# Altium footprint library RPI_EIT_Pcblib.PcbLib: 25 footprints (part 2 of 2)
Each footprint in its own frame and in the unit in brackets; x right, y up, seen from the top. Pads: shape width x height; smd on the part's side, far side on the other; paste and mask are expansions set on the pad; w line width, h text height; cw(c..) or ccw(c..) is an arc to the next point about the centre after c.
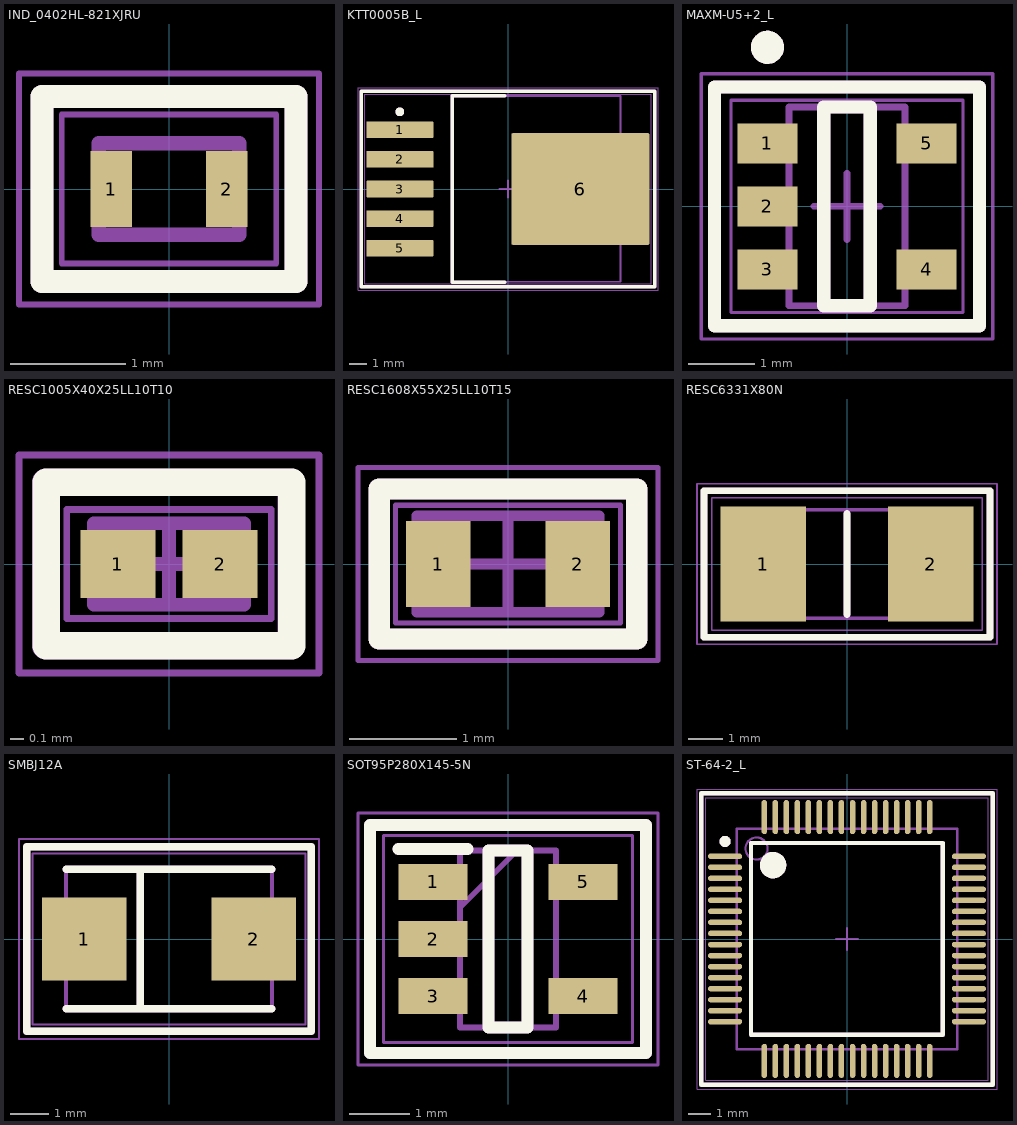
[diagram p1: the footprints below, top view; thin cyan lines are the x and y axes]

## IND_0402HL-821XJRU [mm]
pads (2):
  rect 0.36x0.66 smd: 1(-0.5,0) 2(0.5,0)
Top Overlay:
  lines w0.2: -1.1,-0.8 1.1,-0.8 1.1,0.8 -1.1,0.8 -1.1,-0.8
Top Courtyard:
  lines w0.05: -1.3,-1 1.3,-1 1.3,1 -1.3,1 -1.3,-1
Top Assembly:
  lines w0.2: -1.1,-0.8 1.1,-0.8 1.1,0.8 -1.1,0.8 -1.1,-0.8
  text ".Designator" at -3.499,-0.233 h0.7
Mechanical 13:
  lines w0.127: -0.61,-0.395 -0.61,0.395 0.61,0.395 0.61,-0.395 -0.61,-0.395
Mechanical 15:
  lines w0.05: -0.93,-0.645 -0.93,0.645 0.93,0.645 0.93,-0.645 -0.93,-0.645
3D body "0402CS-56NXJLW.STEP": height 0.57, standoff 0.01, extent -0.61,-0.394 0.61,0.394

## KTT0005B_L [mm] "DPAK, 5-Leads, Body 10.65x9.65mm, Pitch 1.7mm, IPC High Density"
height 4.83
pads (6):
  rrect11% 3.85x0.95 smd: 1(-6.2,3.4) 2(-6.2,1.7) 3(-6.2,0) 4(-6.2,-1.7) 5(-6.2,-3.4)
  rrect2% 7.9x6.4 smd: 6(4.15,0)
Top Overlay:
  circle w0.25: c-6.2,4.425 r0.125
  lines w0.2: -0.2,-5.35 -3.2,-5.35 -3.2,5.35 -0.2,5.35 ; -8.4,-5.6 -8.4,5.6 8.4,5.6 8.4,-5.6 -8.4,-5.6
Mechanical 1:
  text ".Designator" at -1.905,-0.508 h1.3
Top Courtyard:
  lines w0.05: -8.6,-5.8 8.6,-5.8 8.6,5.8 -8.6,5.8 -8.6,-5.8
Top Assembly:
  circle w0.25: c-6.2,4.425 r0.125
  lines w0.2: -0.2,-5.35 -3.2,-5.35 -3.2,5.35 -0.2,5.35 ; -8.4,-5.6 -8.4,5.6 8.4,5.6 8.4,-5.6 -8.4,-5.6
  text ".Designator" at -3.499,-0.233 h0.7
Mechanical 13:
  lines w0.1: -3.2,-5.325 -3.2,5.325 6.45,5.325 6.45,-5.325 -3.2,-5.325
Mechanical 15:
  lines w0.05: -8.2,-5.425 -8.2,5.425 8.2,5.425 8.2,-5.425 -8.2,-5.425
  lines w0.1: -0.5,0 0.5,0 ; 0,-0.5 0,0.5
3D body: height 4.83, standoff 0, extent -3.2,-5.325 6.45,5.325

## MAXM-U5+2_L [mm] "SOT23, 5-Leads, Body 2.9x1.625mm, Pitch 0.95mm, IPC High Density"
height 1.45
pads (5):
  rect 0.9x0.6 smd: 1(-1.2,0.95) 2(-1.2,0) 3(-1.2,-0.95) 4(1.2,-0.95) 5(1.2,0.95)
Top Overlay:
  circle w0.25: c-1.2,2.4 r0.125
  lines w0.2: -2,-1.8 2,-1.8 2,1.8 -2,1.8 -2,-1.8 ; -0.35,-1.5 0.35,-1.5 0.35,1.5 -0.35,1.5 -0.35,-1.5
Top Courtyard:
  lines w0.05: -2.2,-2 -2.2,2 2.2,2 2.2,-2 -2.2,-2
Top Assembly:
  circle w0.25: c-1.2,2.4 r0.125
  lines w0.2: -2,-1.8 2,-1.8 2,1.8 -2,1.8 -2,-1.8 ; -0.35,-1.5 0.35,-1.5 0.35,1.5 -0.35,1.5 -0.35,-1.5
  text ".Designator" at -3.499,-0.233 h0.7
Mechanical 13:
  lines w0.1: -0.875,-1.5 -0.875,1.5 0.875,1.5 0.875,-1.5 -0.875,-1.5
Mechanical 15:
  lines w0.05: -1.75,-1.6 -1.75,1.6 1.75,1.6 1.75,-1.6 -1.75,-1.6
  lines w0.1: -0.5,0 0.5,0 ; 0,-0.5 0,0.5
3D body: height 1.45, standoff 0, extent -0.875,-1.5 0.875,1.5

## RESC1005X40X25LL10T10 [mm] "Chip Resistor, 2-Leads, Body 1.00x0.50mm, IPC High Density"
height 0.4
pads (2):
  rect 0.55x0.5 smd: 1(-0.375,0) 2(0.375,0)
Top Overlay:
  lines w0.2: -0.9,-0.6 0.9,-0.6 0.9,0.6 -0.9,0.6 -0.9,-0.6
Top Courtyard:
  lines w0.05: -1.1,-0.8 1.1,-0.8 1.1,0.8 -1.1,0.8 -1.1,-0.8
Top Assembly:
  lines w0.2: -0.903,-0.601 0.897,-0.601 0.897,0.599 -0.903,0.599 -0.903,-0.601
  text ".Designator" at -3.499,-0.233 h0.7
Mechanical 13:
  lines w0.1: -0.55,-0.3 0.55,-0.3 0.55,0.3 -0.55,0.3 -0.55,-0.3
Mechanical 15:
  lines w0.05: -0.75,-0.4 0.75,-0.4 0.75,0.4 -0.75,0.4 -0.75,-0.4
  lines w0.1: -0.3,0 0.3,0 ; 0,-0.3 0,0.3
3D body: height 0.4, standoff 0, extent 0.3,-0.3 0.55,0.3
3D body: height 0.4, standoff 0, extent -0.55,-0.3 -0.3,0.3
3D body: height 0.4, standoff 0, extent -0.3,-0.3 0.3,0.3

## RESC1608X55X25LL10T15 [mm] "Chip Resistor, 2-Leads, Body 1.60x0.80mm, IPC High Density"
height 0.55
pads (2):
  rect 0.6x0.8 smd: 1(-0.65,0) 2(0.65,0)
Top Overlay:
  lines w0.2: -1.2,-0.7 -1.2,0.7 1.2,0.7 1.2,-0.7 -1.2,-0.7
Top Courtyard:
  lines w0.05: -1.4,-0.9 -1.4,0.9 1.4,0.9 1.4,-0.9 -1.4,-0.9
Top Assembly:
  lines w0.2: -1.2,-0.7 -1.2,0.7 1.2,0.7 1.2,-0.7 -1.2,-0.7
  text ".Designator" at -3.499,-0.233 h0.7
Mechanical 13:
  lines w0.1: -0.85,-0.45 0.85,-0.45 0.85,0.45 -0.85,0.45 -0.85,-0.45
Mechanical 15:
  lines w0.05: -1.05,-0.55 1.05,-0.55 1.05,0.55 -1.05,0.55 -1.05,-0.55
  lines w0.1: -0.45,0 0.45,0 ; 0,-0.45 0,0.45
3D body: height 0.55, standoff 0, extent 0.6,-0.45 0.85,0.45
3D body: height 0.55, standoff 0, extent -0.85,-0.45 -0.6,0.45
3D body: height 0.55, standoff 0, extent -0.6,-0.45 0.6,0.45

## RESC6331X80N [mm]
pads (2):
  rect 2.45x3.3 smd: 1(-2.4,0) 2(2.4,0)
Top Overlay:
  lines w0.2: 0,-1.45 0,1.45 ; -4.1,-2.1 -4.1,2.1 4.1,2.1 4.1,-2.1 -4.1,-2.1
Top Courtyard:
  lines w0.05: -4.3,-2.3 -4.3,2.3 4.3,2.3 4.3,-2.3 -4.3,-2.3
Top Assembly:
  lines w0.2: 0,-1.45 0,1.45 ; -4.1,-2.1 -4.1,2.1 4.1,2.1 4.1,-2.1 -4.1,-2.1
  text ".Designator" at -3.499,-0.233 h0.7
Mechanical 15:
  lines w0.1: -3.15,-1.55 3.15,-1.55 3.15,1.55 -3.15,1.55 -3.15,-1.55
Bottom Assembly:
  lines w0.05: -3.875,-1.9 3.875,-1.9 3.875,1.9 -3.875,1.9 -3.875,-1.9
3D body "CRM2512AFX-10R0ELF.stp": height 0.8, standoff 0, extent -3.15,-1.55 3.15,1.55

## SMBJ12A [mm]
pads (2):
  rect 2.2x2.15 smd: 1(-2.2,0) 2(2.2,0)
Top Overlay:
  lines w0.2: -2.675,-1.812 2.675,-1.812 ; -2.675,1.812 2.675,1.812 ; -0.75,-1.812 -0.75,1.812 ; -3.7,-2.4 -3.7,2.4 3.7,2.4 3.7,-2.4 -3.7,-2.4
Top Courtyard:
  lines w0.05: -3.9,-2.6 -3.9,2.6 3.9,2.6 3.9,-2.6 -3.9,-2.6
Top Assembly:
  lines w0.2: -2.675,-1.812 2.675,-1.812 ; -2.675,1.812 2.675,1.812 ; -0.75,-1.812 -0.75,1.812 ; -3.7,-2.4 -3.7,2.4 3.7,2.4 3.7,-2.4 -3.7,-2.4
  text ".Designator" at -3.499,-0.233 h0.7
Mechanical 13:
  lines w0.1: -2.675,-1.812 2.675,-1.812 2.675,1.812 -2.675,1.812 -2.675,-1.812
Mechanical 15:
  lines w0.05: -3.55,-2.225 3.55,-2.225 3.55,2.225 -3.55,2.225 -3.55,-2.225
3D body "SMBJ6.0A.stp": height 2.33, standoff 0.01, extent -2.675,-1.86 2.675,1.86

## SOT95P280X145-5N [mm]
pads (5):
  rect 1.15x0.6 smd: 1(-1.25,0.95) 2(-1.25,0) 3(-1.25,-0.95) 4(1.25,-0.95) 5(1.25,0.95)
Top Overlay:
  lines w0.2: -1.825,1.5 -0.675,1.5 ; -2.3,-1.9 2.3,-1.9 2.3,1.9 -2.3,1.9 -2.3,-1.9 ; -0.325,-1.475 -0.325,1.475 0.325,1.475 0.325,-1.475 -0.325,-1.475
Top Courtyard:
  lines w0.05: -2.5,-2.1 2.5,-2.1 2.5,2.1 -2.5,2.1 -2.5,-2.1
Top Assembly:
  lines w0.2: -1.825,1.5 -0.675,1.5 ; -2.3,-1.9 2.3,-1.9 2.3,1.9 -2.3,1.9 -2.3,-1.9 ; -0.325,-1.475 -0.325,1.475 0.325,1.475 0.325,-1.475 -0.325,-1.475
  text ".Designator" at -3.499,-0.233 h0.7
Mechanical 15:
  lines w0.1: -0.8,0.525 0.15,1.475 ; -0.8,-1.475 -0.8,1.475 0.8,1.475 0.8,-1.475 -0.8,-1.475
Bottom Assembly:
  lines w0.05: -2.075,-1.725 -2.075,1.725 2.075,1.725 2.075,-1.725 -2.075,-1.725
3D body "ST730M33R.stp": height 1.45, standoff 0, extent -1.4,-1.475 1.4,1.475

## ST-64-2_L [mm] "Thin QFP, 64-Leads, Body 10x10mm, Pitch 0.5mm, IPC High Density"
height 1.6
pads (64):
  oval 1.55x0.25 smd: 1(-5.525,3.75) 2(-5.525,3.25) 3(-5.525,2.75) 4(-5.525,2.25) 5(-5.525,1.75) 6(-5.525,1.25) 7(-5.525,0.75) 8(-5.525,0.25) 9(-5.525,-0.25) 10(-5.525,-0.75) 11(-5.525,-1.25) 12(-5.525,-1.75) 13(-5.525,-2.25) 14(-5.525,-2.75) 15(-5.525,-3.25) 16(-5.525,-3.75) 33(5.525,-3.75) 34(5.525,-3.25) 35(5.525,-2.75) 36(5.525,-2.25) 37(5.525,-1.75) 38(5.525,-1.25) 39(5.525,-0.75) 40(5.525,-0.25) 41(5.525,0.25) 42(5.525,0.75) 43(5.525,1.25) 44(5.525,1.75) 45(5.525,2.25) 46(5.525,2.75) 47(5.525,3.25) 48(5.525,3.75)
  oval 0.25x1.55 smd: 17(-3.75,-5.525) 18(-3.25,-5.525) 19(-2.75,-5.525) 20(-2.25,-5.525) 21(-1.75,-5.525) 22(-1.25,-5.525) 23(-0.75,-5.525) 24(-0.25,-5.525) 25(0.25,-5.525) 26(0.75,-5.525) 27(1.25,-5.525) 28(1.75,-5.525) 29(2.25,-5.525) 30(2.75,-5.525) 31(3.25,-5.525) 32(3.75,-5.525) 49(3.75,5.525) 50(3.25,5.525) 51(2.75,5.525) 52(2.25,5.525) 53(1.75,5.525) 54(1.25,5.525) 55(0.75,5.525) 56(0.25,5.525) 57(-0.25,5.525) 58(-0.75,5.525) 59(-1.25,5.525) 60(-1.75,5.525) 61(-2.25,5.525) 62(-2.75,5.525) 63(-3.25,5.525) 64(-3.75,5.525)
Top Overlay:
  circle w0.6: c-3.35,3.35 r0.3
  circle w0.25: c-5.525,4.425 r0.125
  lines w0.2: -6.6,-6.6 6.6,-6.6 6.6,6.6 -6.6,6.6 -6.6,-6.6 ; -4.35,-4.35 4.35,-4.35 4.35,4.35 -4.35,4.35 -4.35,-4.35
Top Courtyard:
  lines w0.05: -6.8,-6.8 -6.8,6.8 6.8,6.8 6.8,-6.8 -6.8,-6.8
Top Assembly:
  circle w0.6: c-3.35,3.35 r0.3
  circle w0.25: c-5.525,4.425 r0.125
  lines w0.2: -6.6,-6.6 6.6,-6.6 6.6,6.6 -6.6,6.6 -6.6,-6.6 ; -4.35,-4.35 4.35,-4.35 4.35,4.35 -4.35,4.35 -4.35,-4.35
  text ".Designator" at -3.499,-0.233 h0.7
Mechanical 13:
  circle w0.1: c-4.1,4.1 r0.5
  lines w0.1: -5,-5 5,-5 5,5 -5,5 -5,-5
Mechanical 15:
  lines w0.05: -6.4,-6.4 6.4,-6.4 6.4,6.4 -6.4,6.4 -6.4,-6.4
  lines w0.1: -0.5,0 0.5,0 ; 0,-0.5 0,0.5
3D body: height 1.6, standoff 0, extent -5,-5 5,5